# EAGLE library part CXD8606 (library psx)
Playstation 1 CPU
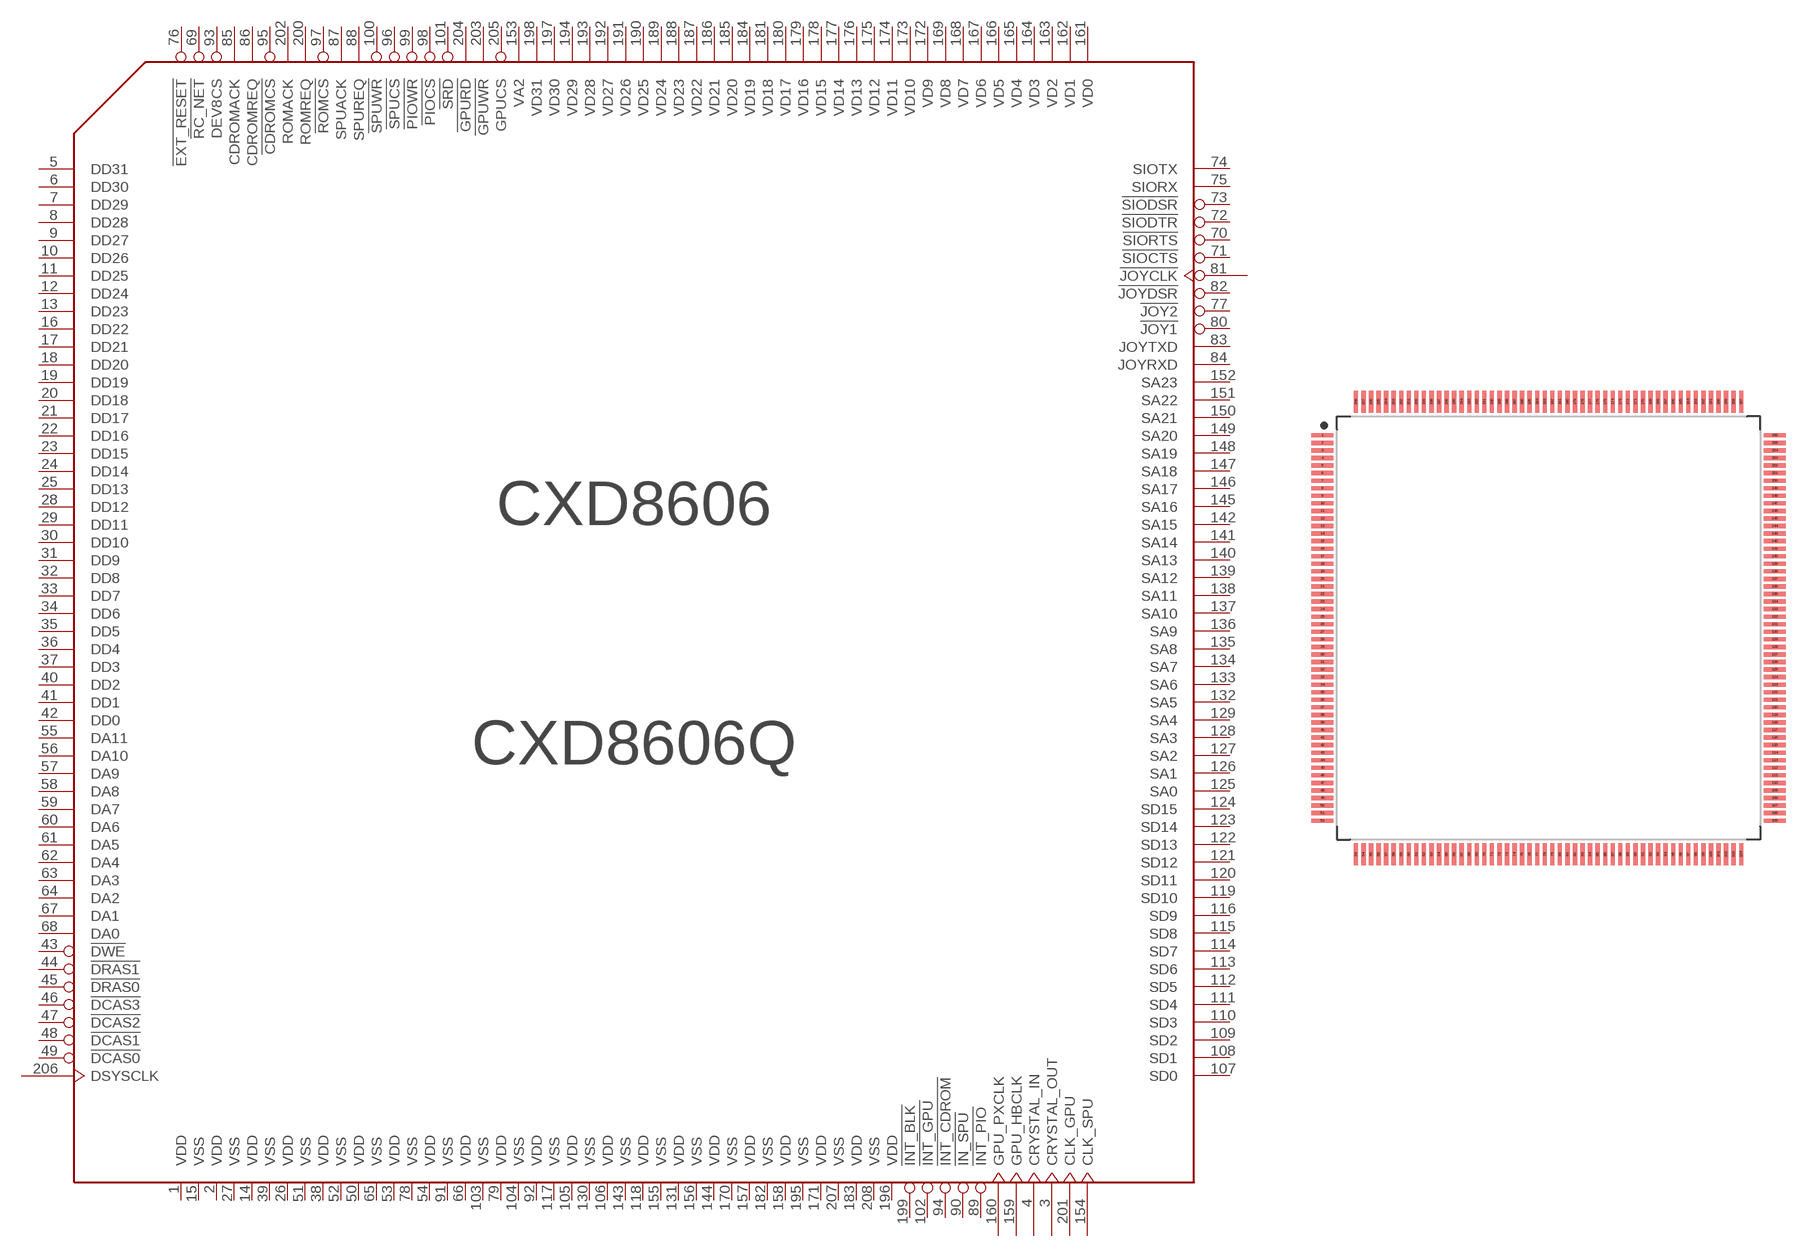
[diagram p0: symbol with the pads of QFP50P3060X3060X410-208; footprint QFP50P3060X3060X410-208]

Designator prefix -

## CXD8606Q  [QFP50P3060X3060X410-208]
1  VDD  pwr
2  VDD  pwr
3  CRYSTAL_OUT  out
4  CRYSTAL_IN  in
5  DD31
6  DD30
7  DD29
8  DD28
9  DD27
10  DD26
11  DD25
12  DD24
13  DD23
14  VDD  pwr
15  VSS  pwr
16  DD22
17  DD21
18  DD20
19  DD19
20  DD18
21  DD17
22  DD16
23  DD15
24  DD14
25  DD13
26  VDD  pwr
27  VSS  pwr
28  DD12
29  DD11
30  DD10
31  DD9
32  DD8
33  DD7
34  DD6
35  DD5
36  DD4
37  DD3
38  VDD  pwr
39  VSS  pwr
40  DD2
41  DD1
42  DD0
43  !DWE  out
44  !DRAS1  out
45  !DRAS0  out
46  !DCAS3  out
47  !DCAS2  out
48  !DCAS1  out
49  !DCAS0  out
50  VDD  pwr
51  VSS  pwr
52  VSS  pwr
53  VDD  pwr
54  VDD  pwr
55  DA11  out
56  DA10  out
57  DA9  out
58  DA8  out
59  DA7  out
60  DA6  out
61  DA5  out
62  DA4  out
63  DA3  out
64  DA2  out
65  VSS  pwr
66  VDD  pwr
67  DA1  out
68  DA0  out
69  !RC_NET
70  !SIORTS  out
71  !SIOCTS  in
72  !SIODTR  out
73  !SIODSR  in
74  SIOTX  out
75  SIORX  in
76  !EXT_RESET  out
77  !JOY2  out
78  VSS  pwr
79  VDD  pwr
80  !JOY1  out
81  !JOYCLK
82  !JOYDSR  in
83  JOYTXD  out
84  JOYRXD  in
85  CDROMACK  out
86  CDROMREQ  in
87  SPUACK  out
88  SPUREQ  in
89  !INT_PIO  in
90  !IN_SPU  in
91  VSS  pwr
92  VDD  pwr
93  DEV8CS  out
94  !INT_CDROM  in
95  !CDROMCS  out
96  !SPUCS  out
97  !ROMCS  out
98  !PIOCS  out
99  !PIOWR  out
100  !SPUWR  out
101  !SRD  out
102  !INT_GPU  in
103  VSS  pwr
104  VSS  pwr
105  VDD  pwr
106  VDD  pwr
107  SD0
108  SD1
109  SD2
110  SD3
111  SD4
112  SD5
113  SD6
114  SD7
115  SD8
116  SD9
117  VSS  pwr
118  VDD  pwr
119  SD10
120  SD11
121  SD12
122  SD13
123  SD14
124  SD15
125  SA0  out
126  SA1  out
127  SA2  out
128  SA3  out
129  SA4  out
130  VSS  pwr
131  VDD  pwr
132  SA5  out
133  SA6  out
134  SA7  out
135  SA8  out
136  SA9  out
137  SA10  out
138  SA11  out
139  SA12  out
140  SA13  out
141  SA14  out
142  SA15  out
143  VSS  pwr
144  VDD  pwr
145  SA16  out
146  SA17  out
147  SA18  out
148  SA19  out
149  SA20  out
150  SA21  out
151  SA22  out
152  SA23  out
153  VA2  out
154  CLK_SPU  out
155  VSS  pwr
156  VSS  pwr
157  VDD  pwr
158  VDD  pwr
159  GPU_HBCLK  in
160  GPU_PXCLK  in
161  VD0
162  VD1
163  VD2
164  VD3
165  VD4
166  VD5
167  VD6
168  VD7
169  VD8
170  VSS  pwr
171  VDD  pwr
172  VD9
173  VD10
174  VD11
175  VD12
176  VD13
177  VD14
178  VD15
179  VD16
180  VD17
181  VD18
182  VSS  pwr
183  VDD  pwr
184  VD19
185  VD20
186  VD21
187  VD22
188  VD23
189  VD24
190  VD25
191  VD26
192  VD27
193  VD28
194  VD29
195  VSS  pwr
196  VDD  pwr
197  VD30
198  VD31
199  !INT_BLK  in
200  ROMREQ  in
201  CLK_GPU  out
202  ROMACK  out
203  !GPUWR  out
204  !GPURD  out
205  GPUCS  out
206  DSYSCLK  out
207  VSS  pwr
208  VSS  pwr

## Footprint QFP50P3060X3060X410-208 (pad centres in mm)
208-QFP, 0.50 mm pitch, 30.60 mm span, 28.00 X 28.00 X 4.10 mm body 208-pin QFP package with 0.50 mm pitch, 30.60 mm lead span1 X 30.60 mm lead span2 with body size 28.00 X 28.00 X 4.10 mm
smd 1.469 x 0.28: 1 -14.971,12.75; 2 -14.971,12.25; 3 -14.971,11.75; 4 -14.971,11.25; 5 -14.971,10.75; 6 -14.971,10.25; 7 -14.971,9.75; 8 -14.971,9.25; 9 -14.971,8.75; 10 -14.971,8.25; 11 -14.971,7.75; 12 -14.971,7.25; 13 -14.971,6.75; 14 -14.971,6.25; 15 -14.971,5.75; 16 -14.971,5.25; 17 -14.971,4.75; 18 -14.971,4.25; 19 -14.971,3.75; 20 -14.971,3.25; 21 -14.971,2.75; 22 -14.971,2.25; 23 -14.971,1.75; 24 -14.971,1.25; 25 -14.971,0.75; 26 -14.971,0.25; 27 -14.971,-0.25; 28 -14.971,-0.75; 29 -14.971,-1.25; 30 -14.971,-1.75; 31 -14.971,-2.25; 32 -14.971,-2.75; 33 -14.971,-3.25; 34 -14.971,-3.75; 35 -14.971,-4.25; 36 -14.971,-4.75; 37 -14.971,-5.25; 38 -14.971,-5.75; 39 -14.971,-6.25; 40 -14.971,-6.75; 41 -14.971,-7.25; 42 -14.971,-7.75; 43 -14.971,-8.25; 44 -14.971,-8.75; 45 -14.971,-9.25; 46 -14.971,-9.75; 47 -14.971,-10.25; 48 -14.971,-10.75; 49 -14.971,-11.25; 50 -14.971,-11.75; 51 -14.971,-12.25; 52 -14.971,-12.75; 105 14.971,-12.75; 106 14.971,-12.25; 107 14.971,-11.75; 108 14.971,-11.25; 109 14.971,-10.75; 110 14.971,-10.25; 111 14.971,-9.75; 112 14.971,-9.25; 113 14.971,-8.75; 114 14.971,-8.25; 115 14.971,-7.75; 116 14.971,-7.25; 117 14.971,-6.75; 118 14.971,-6.25; 119 14.971,-5.75; 120 14.971,-5.25; 121 14.971,-4.75; 122 14.971,-4.25; 123 14.971,-3.75; 124 14.971,-3.25; 125 14.971,-2.75; 126 14.971,-2.25; 127 14.971,-1.75; 128 14.971,-1.25; 129 14.971,-0.75; 130 14.971,-0.25; 131 14.971,0.25; 132 14.971,0.75; 133 14.971,1.25; 134 14.971,1.75; 135 14.971,2.25; 136 14.971,2.75; 137 14.971,3.25; 138 14.971,3.75; 139 14.971,4.25; 140 14.971,4.75; 141 14.971,5.25; 142 14.971,5.75; 143 14.971,6.25; 144 14.971,6.75; 145 14.971,7.25; 146 14.971,7.75; 147 14.971,8.25; 148 14.971,8.75; 149 14.971,9.25; 150 14.971,9.75; 151 14.971,10.25; 152 14.971,10.75; 153 14.971,11.25; 154 14.971,11.75; 155 14.971,12.25; 156 14.971,12.75
smd 0.28 x 1.469: 53 -12.75,-14.971; 54 -12.25,-14.971; 55 -11.75,-14.971; 56 -11.25,-14.971; 57 -10.75,-14.971; 58 -10.25,-14.971; 59 -9.75,-14.971; 60 -9.25,-14.971; 61 -8.75,-14.971; 62 -8.25,-14.971; 63 -7.75,-14.971; 64 -7.25,-14.971; 65 -6.75,-14.971; 66 -6.25,-14.971; 67 -5.75,-14.971; 68 -5.25,-14.971; 69 -4.75,-14.971; 70 -4.25,-14.971; 71 -3.75,-14.971; 72 -3.25,-14.971; 73 -2.75,-14.971; 74 -2.25,-14.971; 75 -1.75,-14.971; 76 -1.25,-14.971; 77 -0.75,-14.971; 78 -0.25,-14.971; 79 0.25,-14.971; 80 0.75,-14.971; 81 1.25,-14.971; 82 1.75,-14.971; 83 2.25,-14.971; 84 2.75,-14.971; 85 3.25,-14.971; 86 3.75,-14.971; 87 4.25,-14.971; 88 4.75,-14.971; 89 5.25,-14.971; 90 5.75,-14.971; 91 6.25,-14.971; 92 6.75,-14.971; 93 7.25,-14.971; 94 7.75,-14.971; 95 8.25,-14.971; 96 8.75,-14.971; 97 9.25,-14.971; 98 9.75,-14.971; 99 10.25,-14.971; 100 10.75,-14.971; 101 11.25,-14.971; 102 11.75,-14.971; 103 12.25,-14.971; 104 12.75,-14.971; 157 12.75,14.971; 158 12.25,14.971; 159 11.75,14.971; 160 11.25,14.971; 161 10.75,14.971; 162 10.25,14.971; 163 9.75,14.971; 164 9.25,14.971; 165 8.75,14.971; 166 8.25,14.971; 167 7.75,14.971; 168 7.25,14.971; 169 6.75,14.971; 170 6.25,14.971; 171 5.75,14.971; 172 5.25,14.971; 173 4.75,14.971; 174 4.25,14.971; 175 3.75,14.971; 176 3.25,14.971; 177 2.75,14.971; 178 2.25,14.971; 179 1.75,14.971; 180 1.25,14.971; 181 0.75,14.971; 182 0.25,14.971; 183 -0.25,14.971; 184 -0.75,14.971; 185 -1.25,14.971; 186 -1.75,14.971; 187 -2.25,14.971; 188 -2.75,14.971; 189 -3.25,14.971; 190 -3.75,14.971; 191 -4.25,14.971; 192 -4.75,14.971; 193 -5.25,14.971; 194 -5.75,14.971; 195 -6.25,14.971; 196 -6.75,14.971; 197 -7.25,14.971; 198 -7.75,14.971; 199 -8.25,14.971; 200 -8.75,14.971; 201 -9.25,14.971; 202 -9.75,14.971; 203 -10.25,14.971; 204 -10.75,14.971; 205 -11.25,14.971; 206 -11.75,14.971; 207 -12.25,14.971; 208 -12.75,14.971